# EAGLE library part TPS61240DRVR (library daqcs_host)
3.5-MHz High Efficiency Step-Up Converter
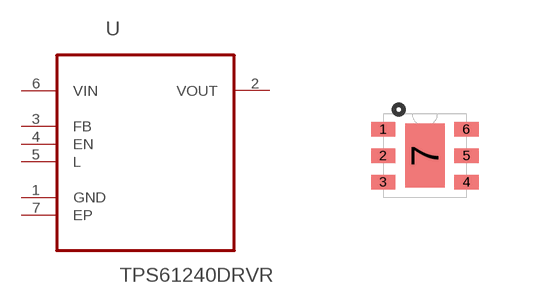
[diagram p5: symbol with the pads of SON65P200X200X80-7N; footprint SON65P200X200X80-7N]

Designator prefix U

## TPS61240DRVR (MANUFACTURER: Texas Instruments; MANUFACTURER_PN: TPS61240DRVR; OC_FARNELL: -; OC_NEWARK: 25R0113; PACKAGE: SON-6; VENDOR: Digi-key; VENDOR_PN: 296-39437-1-ND)  [SON65P200X200X80-7N]
1  GND  pas
2  VOUT  sup
3  FB  in
4  EN  in
5  L  in
6  VIN  pwr
7  EP  pas

## Footprint SON65P200X200X80-7N (pad centres in mm)
smd 0.61 x 0.356: 1 -1.041,0.66; 2 -1.041,0; 3 -1.041,-0.66; 4 1.041,-0.66; 5 1.041,0; 6 1.041,0.66
smd 0.991 x 1.6: 7 0,0